# Altium schematic symbol library DCDC_Module_converter.SchLib: 4 symbols
Pins are listed as number, name and electrical type; pins without a type are passive.

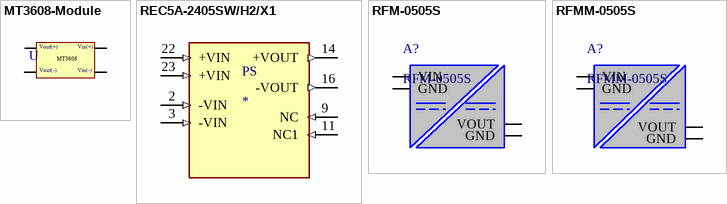
[diagram p0: symbols MT3608-Module to RFMM-0505S]

## MT3608-Module
designator U
footprint MT3608-module
pins: 1 Vout(+), 2 Vout(-), 3 Vin(-), 4 Vin(+)
text: MT3608

## REC5A-2405SW/H2/X1
designator PS
5W DC/DC-Converter 'ECONOLINE' DIP24 2kV reg 2:1; MP: REC5A-2405SW/H2/X1; MF: Recom Power; Package: DIP-24 Recom Power; Value: *; SnapEDA_Link: https://www.snapeda.com/parts/REC5A-2405SW/H2/X1/Recom%20Power/view-part/3635437/?ref=snap; Availability: Unavailable; Price: None
footprint CONV_REC5A-2405SW/H2/X1
pins: 2 -VIN (in), 3 -VIN (in), 9 NC (in), 11 NC1 (in), 14 +VOUT (out), 16 -VOUT (out), 22 +VIN (in), 23 +VIN (in)

## RFM-0505S
designator A?
RFM Series 1 W 5 V Input 5 V Output 1 kVDC Isolated DC/DC-Converter - SIP4; Manufacturer: Recom; Manufacturer Part Number: RFMM-0505S; Max Output Voltage: 5V; Max Supply Voltage: 5.5V; Min Supply Voltage: 4.5V; Nominal Supply Current: 25mA; Output Current: 200mA; Output Power: 1W; Switching Frequency: 80kHz; RoHS: Yes; Weight: 2.7g; Length: 19.65mm; Width: 7.05mm; Height: 10.2mm; ComponentLink1URL: http://www.farnell.com/datasheets/2787867.pdf?src-supplier=Farnell; ComponentLink1Description: http://www.farnell.com/datasheets/2787867.pdf?src-supplier=Farnell; ComponentLink2URL: https://www.recom-power.com/pdf/Econoline/RFMM.pdf?src-supplier=Digi-Key; ComponentLink2Description: https://www.recom-power.com/pdf/Econoline/RFMM.pdf?src-supplier=Digi-Key; Supplier Part Number: RFM-0505S; Output Voltage: 5V; ComponentLink4URL: http://www.farnell.com/datasheets/2787866.pdf?src-supplier=Farnell; ComponentLink4Description: http://www.farnell.com/datasheets/2787866.pdf?src-supplier=Farnell; ComponentLink5URL: https://www.recom-power.com/pdf/Econoline/RFM.pdf?src-supplier=Digi-Key; ComponentLink5Description: https://www.recom-power.com/pdf/Econoline/RFM.pdf?src-supplier=Digi-Key; ComponentLink6URL: https://datasheet.octopart.com/RFM-0505S-Recom-Power-datasheet-133924900.pdf?src-supplier=Farnell; ComponentLink6Description: https://datasheet.octopart.com/RFM-0505S-Recom-Power-datasheet-133924900.pdf?src-supplier=Farnell; ComponentLink7URL: http://www.farnell.com/datasheets/2787866.pdf?src-supplier=Newark; ComponentLink7Description: http://www.farnell.com/datasheets/2787866.pdf?src-supplier=Newark; ComponentLink8URL: https://datasheet.octopart.com/RFM-0505S-Recom-Power-datasheet-104425650.pdf?src-supplier=Element14; ComponentLink8Description: https://datasheet.octopart.com/RFM-0505S-Recom-Power-datasheet-104425650.pdf?src-supplier=Element14; ComponentLink9Description: Link; ComponentLink9URL: https://ozdisan.com/guc-kaynaklari/donusturucu-moduller/dcdc-donusturuculer/RFM-0505S/538512
footprint RFM-0505S
pins: 1 GND, 2 VIN, 3 GND, 4 VOUT

## RFMM-0505S
designator A?
RFMM Series 1 W 5 V Input 5 V Output 4 kVDC Isolated DC/DC-Converter - SIP7; Manufacturer: Recom; Max Output Voltage: 5V; Manufacturer Part Number: RFMM-0505S; RoHS: Yes; Weight: 2.7g; Length: 19.65mm; Width: 7.05mm; Height: 10.2mm; ComponentLink1URL: http://www.farnell.com/datasheets/2787867.pdf?src-supplier=Farnell; ComponentLink1Description: http://www.farnell.com/datasheets/2787867.pdf?src-supplier=Farnell; ComponentLink2URL: https://www.recom-power.com/pdf/Econoline/RFMM.pdf?src-supplier=Digi-Key; ComponentLink2Description: https://www.recom-power.com/pdf/Econoline/RFMM.pdf?src-supplier=Digi-Key; ComponentLink3Description: Link; ComponentLink3URL: https://ozdisan.com/guc-kaynaklari/donusturucu-moduller/dcdc-donusturuculer/RFMM-0505S/538514
footprint RFMM0505S
pins: 1 VIN, 2 GND, 5 GND, 7 VOUT